# Altium schematic symbol library WS-PBTL.SchLib: 2 symbols
Pins are listed as number, name and electrical type; pins without a type are passive.

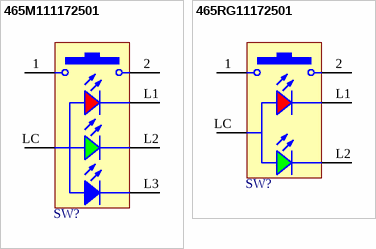
[diagram p0: symbols 465M111172501 to 465RG11172501]

## 465M111172501
designator SW?  (value not drawn)
WS-PBTL Illuminated THT Push Button Switch, Red & Green & Blue, 12VDC, 100mA, 200g; Manufacturer: Wurth Elektronik; ComponentLink1Description: Website Link; ComponentLink1URL: https://www.we-online.com/redexpert/article/465M111172501?ad; ComponentLink2Description: Datasheet Link; ComponentLink2URL: https://www.we-online.com/redexpert/spec/465M111172501?ad; Manufacturer Part Number: 465M111172501; Category: Illuminated Switches; Match Code: WS-PBTL; Mount: Through Hole; Operating Temperature Max: 85°C; Operating Temperature Min: -40°C; Packaging: ESD Tray; Length: 15mm; Width: 15mm; Height: 19.5mm; Contact Material: Copper Alloy; Contact Plating: Gold; Operation Force: 200g; Emitting Color: Red & Green & Blue; Rated Current: 100mA; Rated Voltage: 12VDC; Terminal Material: Copper Alloy; Terminal Plating: Tin
footprint 465M111172501
pins: 1, 2, L1, L2, L3, LC

## 465RG11172501
designator SW?  (value not drawn)
WS-PBTL Illuminated THT Push Button Switch, Red & Green, 12VDC, 100mA, 200g; Manufacturer: Wurth Elektronik; ComponentLink1Description: Website Link; ComponentLink1URL: https://www.we-online.com/redexpert/article/465RG11172501?ad; ComponentLink2Description: Datasheet Link; ComponentLink2URL: https://www.we-online.com/redexpert/spec/465RG11172501?ad; Manufacturer Part Number: 465RG11172501; Category: Illuminated Switches; Match Code: WS-PBTL; Mount: Through Hole; Operating Temperature Max: 85°C; Operating Temperature Min: -40°C; Packaging: ESD Tray; Length: 15mm; Width: 15mm; Height: 19.5mm; Contact Material: Brass; Contact Plating: Gold; Operation Force: 200g; Emitting Color: Red & Green; Rated Current: 100mA; Rated Voltage: 12VDC; Terminal Material: Brass; Terminal Plating: Tin
footprint 465RG11172501
pins: 1, 2, L1, L2, LC